# EAGLE library part 74XXX125 (library sjunglib)
74XXX125 quadruple 1-bit tristate buffer
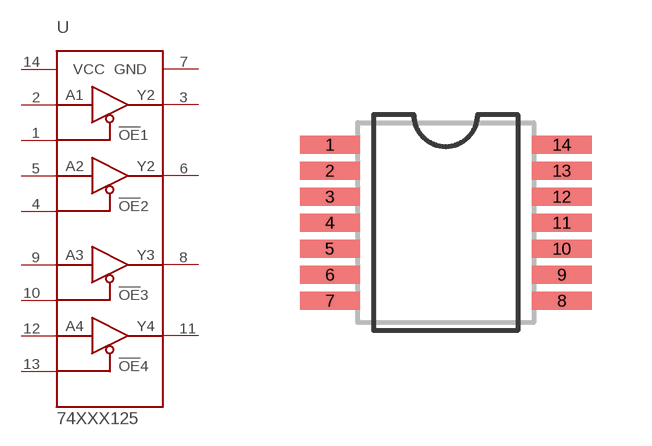
[diagram p6: symbol with the pads of TSSOP-14; footprint TSSOP-14]

Designator prefix U

## 74XXX125PW  [TSSOP-14]
1  !OE1  in
2  A1  in
3  Y1  out
4  !OE2  in
5  A2  in
6  Y2  out
7  GND  pwr
8  Y3  out
9  A3  in
10  !OE3  in
11  Y4  out
12  A4  in
13  !OE4  in
14  VCC  pwr

## Footprint TSSOP-14 (pad centres in mm)
TSSOP-14 Body width: 4.4mm Pads: 0.45 x 1.5mm Pitch: 0.65mm Center-center spacing: 5.8mm Documented dims: 5.0 x 4.4 mm Documented leads: 0.3 x 1.0 mm JEDEC: MO-153AB-1 EIA:
smd 1.5 x 0.45: 1 -2.9,1.95; 2 -2.9,1.3; 3 -2.9,0.65; 4 -2.9,0; 5 -2.9,-0.65; 6 -2.9,-1.3; 7 -2.9,-1.95; 8 2.9,-1.95; 9 2.9,-1.3; 10 2.9,-0.65; 11 2.9,0; 12 2.9,0.65; 13 2.9,1.3; 14 2.9,1.95